# Altium footprint library Capacitors.PcbLib: 7 footprints
Each footprint in its own frame and in the unit in brackets; x right, y up, seen from the top. Pads: shape width x height; smd on the part's side, far side on the other; paste and mask are expansions set on the pad; w line width, h text height; cw(c..) or ccw(c..) is an arc to the next point about the centre after c.
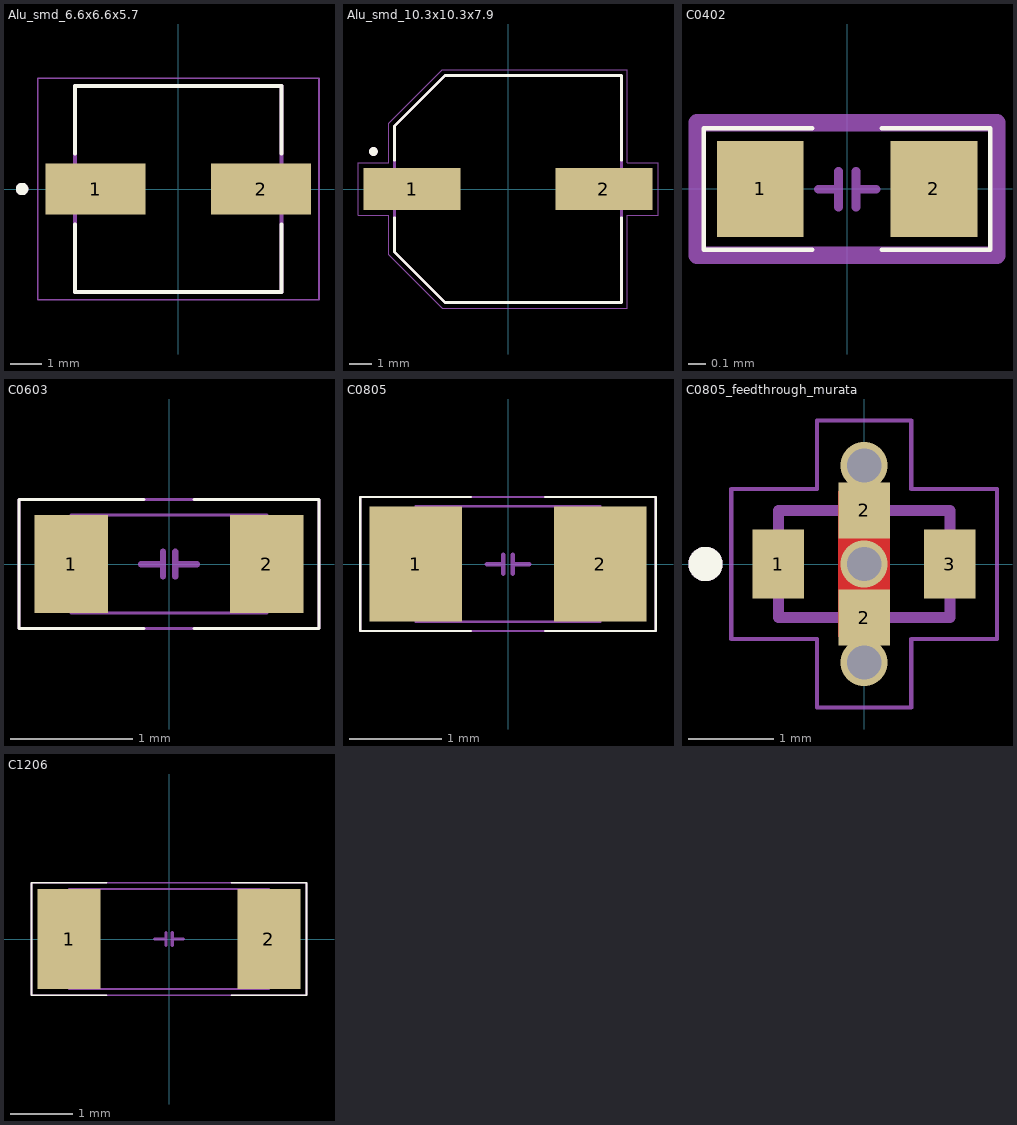
[diagram p0: the footprints below, top view; thin cyan lines are the x and y axes]

## Alu_smd_6.6x6.6x5.7 [mm]
pads (2):
  rect 3.21x1.62 smd: 1(-2.65,0) 2(2.65,0)
Top Overlay:
  circle w0.2: c-5,0 r0.1
  lines w0.127: -3.3,-1.13 -3.3,-3.3 3.3,-3.3 3.3,-1.13 ; -3.3,1.13 -3.3,3.3 3.3,3.3 3.3,1.13
Mechanical 13:
  circle w0.2: c-5,0 r0.1
  lines w0.127: -3.3,-3.3 -3.3,3.3 3.3,3.3 3.3,-3.3 -3.3,-3.3
Mechanical 15:
  lines w0.05: -4.505,-3.55 4.505,-3.55 4.505,3.55 -4.505,3.55 -4.505,-3.55
3D body "A768EB127M1DLAS034.step": height 6.02, standoff 0.01, extent -3.75,-3.4 3.75,3.4

## Alu_smd_10.3x10.3x7.9 [mm]
pads (2):
  rect 4.4x1.9 smd: 1(-4.35,0) 2(4.35,0)
Top Overlay:
  circle w0.2: c-6.1,1.7 r0.1
  lines w0.127: -5.15,-1.3 -5.15,-2.85 -2.85,-5.15 5.15,-5.15 5.15,-1.3 ; -5.15,1.3 -5.15,2.85 -2.85,5.15 5.15,5.15 5.15,1.3
Mechanical 13:
  circle w0.2: c-6.1,1.7 r0.1
  lines w0.127: -5.15,-2.85 -2.85,-5.15 5.15,-5.15 5.15,5.15 -2.85,5.15 -5.15,2.85 -5.15,-2.85
Mechanical 15:
  lines w0.05: -6.8,-1.2 -5.4,-1.2 -5.4,-2.975 -2.975,-5.4 5.4,-5.4 5.4,-1.2 6.8,-1.2 6.8,1.2 5.4,1.2 5.4,5.4 -2.975,5.4 -5.4,2.975 -5.4,1.2 -6.8,1.2 -6.8,-1.2
3D body "100SXV15MX.step": height 7.91, standoff 0.01, extent -5.5,-5.15 5.5,5.15

## C0402 [mm] "0402 SMD Resistor"
pads (2):
  rect 0.5x0.55 smd mask+0.051: 1(-0.5,0) 2(0.5,0)
Top Overlay:
  lines w0.025: -0.2,-0.35 -0.825,-0.35 -0.825,0.35 -0.2,0.35 ; 0.2,-0.35 0.825,-0.35 0.825,0.35 0.2,0.35
Mechanical 13:
  lines w0.051: -0.165,-0.002 -0.075,-0.002 ; -0.05,-0.103 -0.05,0.1 ; 0.052,-0.103 0.052,0.1 ; 0.077,-0.002 0.167,-0.002
Mechanical 29:
  lines w0.1: -0.864,-0.381 -0.864,0.381 0.863,0.381 0.863,-0.381 -0.864,-0.381
  text ".Designator" at -0.94,-0.203 h0.45
3D body "User Library-SMD RESISTOR-1.step": height 0.35, standoff -0.01, extent -0.5,-0.25 0.5,0.25

## C0603 [mm] "0603 SMD Capacitor"
pads (2):
  rect 0.6x0.8 smd mask+0.102: 1(-0.8,0)
  rect 0.6x0.8 smd: 2(0.8,0)
Top Overlay:
  lines w0.025: -0.203,-0.525 -1.225,-0.525 -1.225,0.525 -0.203,0.525 ; 0.203,-0.525 1.225,-0.525 1.225,0.525 0.3,0.525 0.203,0.525
Mechanical 13:
  lines w0.025: -0.8,-0.4 0.8,-0.4 0.8,0.4 -0.8,0.4 -0.8,-0.4
  lines w0.051: -0.228,-0.002 -0.075,-0.002 ; -0.05,-0.103 -0.05,0.1 ; 0.052,-0.103 0.052,0.1 ; 0.077,-0.002 0.229,-0.002
Mechanical 15:
  lines w0.025: 0.3,0.525 1.225,0.525 ; 1.225,0.525 -1.225,0.525 -1.225,-0.525 1.225,-0.525 1.225,0.525
3D body "C0603_060.step": height 0.6, standoff 0, extent -0.8,-0.4 0.8,0.4

## C0805 [mm] "0805 SMD Capacitor"
pads (2):
  rect 1x1.25 smd: 1(-1,0) 2(1,0)
Top Overlay:
  lines w0.025: -0.4,-0.725 -1.6,-0.725 -1.6,0.725 -0.4,0.725 ; 0.4,-0.725 1.6,-0.725 1.6,0.725 0.4,0.725
Mechanical 13:
  lines w0.025: -1,-0.625 -1,0.625 1,0.625 1,-0.625 -1,-0.625
  lines w0.051: -0.228,-0.002 -0.075,-0.002 ; -0.05,-0.103 -0.05,0.1 ; 0.052,-0.103 0.052,0.1 ; 0.077,-0.002 0.229,-0.002
Mechanical 15:
  lines w0.025: -1.6,-0.725 1.6,-0.725 1.6,0.725 -1.6,0.725 -1.6,-0.725
3D body "C0805_085.step": height 0.85, standoff 0, extent -1,-0.625 1,0.625

## C0805_feedthrough_murata [mm]
pads (4):
  rect 0.6x0.8 smd mask+0: 1(-1,0) 3(1,0)
  rect 0.6x0.65 smd mask+0: 2(0,-0.625) 2(0,0.625)
via 0,-1.15 diameter 0.55 hole 0.4
via 0,0 diameter 0.55 hole 0.4
via 0,1.15 diameter 0.55 hole 0.4
Top Layer:
  region: 0.3,-0.85 -0.3,-0.85 -0.3,0.85 0.3,0.85
Top Overlay:
  circle w0.2: c-1.85,0 r0.1
Top Solder:
  region: -0.7,-0.4 -1.3,-0.4 -1.3,0.4 -0.7,0.4
  region: 1.3,-0.4 0.7,-0.4 0.7,0.4 1.3,0.4
  region: 0.3,-0.95 -0.3,-0.95 -0.3,-0.3 0.3,-0.3
  region: 0.3,0.3 -0.3,0.3 -0.3,0.95 0.3,0.95
Mechanical 13:
  circle w0.2: c-1.85,0 r0.1
  lines w0.127: -1,-0.625 -1,0.625 1,0.625 1,-0.625 -1,-0.625
Mechanical 15:
  lines w0.05: -1.55,-0.875 -0.55,-0.875 -0.55,-1.675 0.55,-1.675 0.55,-0.875 1.55,-0.875 1.55,0.875 0.55,0.875 0.55,1.675 -0.55,1.675 -0.55,0.875 -1.55,0.875 -1.55,-0.875
3D body "NFM21HC224R1A3D.STEP": height 0.95, standoff 0, extent -1,-0.625 1,0.625

## C1206 [mm] "1206 SMD Capacitor"
pads (2):
  rect 1x1.6 smd: 1(-1.6,0) 2(1.6,0)
Top Overlay:
  lines w0.025: -1,-0.9 -2.2,-0.9 -2.2,0.9 -1,0.9 ; 1,-0.9 2.2,-0.9 2.2,0.9 1,0.9
Mechanical 13:
  lines w0.025: -1.6,-0.8 -1.6,0.8 1.6,0.8 1.6,-0.8 -1.6,-0.8
  lines w0.051: -0.228,-0.002 -0.075,-0.002 ; -0.05,-0.103 -0.05,0.1 ; 0.052,-0.103 0.052,0.1 ; 0.077,-0.002 0.229,-0.002
Mechanical 15:
  lines w0.025: -2.2,-0.9 2.2,-0.9 2.2,0.9 -1,0.9 -2.2,0.9 -2.2,-0.9
3D body "C1206_085.step": height 0.85, standoff 0, extent -1.6,-0.8 1.6,0.8